# Altium footprint library ADXL372BCCZ-RL7.PcbLib: 2 footprints
Each footprint in its own frame and in the unit in brackets; x right, y up, seen from the top. Pads: shape width x height; smd on the part's side, far side on the other; paste and mask are expansions set on the pad; w line width, h text height; cw(c..) or ccw(c..) is an arc to the next point about the centre after c.
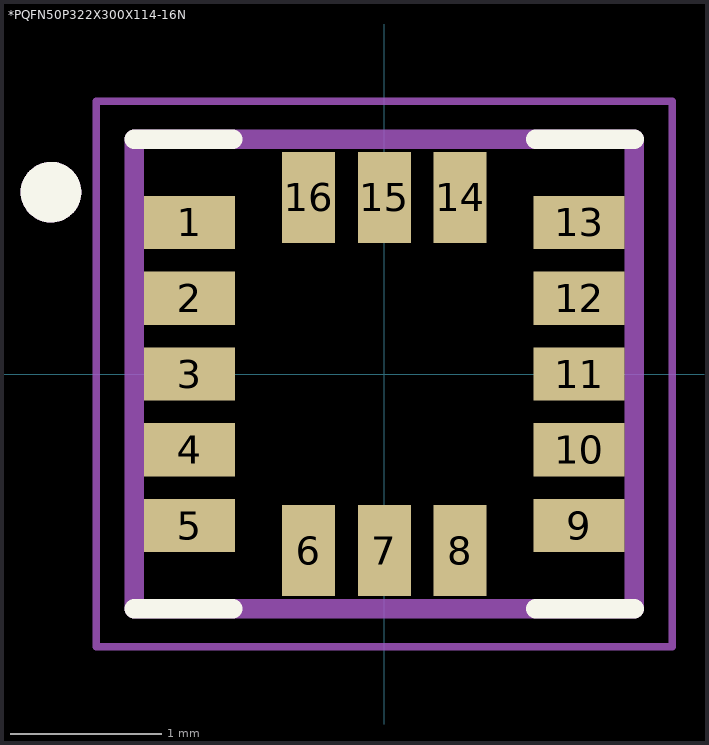
[diagram p0: the footprints below, top view; thin cyan lines are the x and y axes]

## *PQFN50P322X300X114-16N [mm]
pads (16):
  rect 0.6x0.35 smd: 1(-1.285,1) 2(-1.285,0.5) 3(-1.285,0) 4(-1.285,-0.5) 5(-1.285,-1) 9(1.285,-1) 10(1.285,-0.5) 11(1.285,0) 12(1.285,0.5) 13(1.285,1)
  rect 0.35x0.6 smd: 6(-0.5,-1.165) 7(0,-1.165) 8(0.5,-1.165) 14(0.5,1.165) 15(0,1.165) 16(-0.5,1.165)
Top Overlay:
  circle w0.2: c-2.2,1.2 r0.1
  lines w0.127: -1.65,-1.55 -1,-1.55 ; -1.65,1.55 -1,1.55 ; 1,-1.55 1.65,-1.55 ; 1,1.55 1.65,1.55
Mechanical 13:
  circle w0.2: c-2.2,1.2 r0.1
  circle w0.2: c-2.2,1.2 r0.1
  lines w0.127: -1.65,-1.55 -1.65,1.55 ; -1.65,-1.55 1.65,-1.55 ; -1.65,-1.55 -1.65,1.55 ; -1.65,-1.55 1.65,-1.55 ; -1.65,1.55 1.65,1.55 ; -1.65,1.55 1.65,1.55 ; 1.65,-1.55 1.65,1.55 ; 1.65,-1.55 1.65,1.55
Mechanical 15:
  lines w0.05: -1.9,-1.8 -1.9,1.8 1.9,1.8 1.9,-1.8 -1.9,-1.8

## PCBComponent_1 [mm]